# EAGLE library part TLV9061SQDBVRQ1 (library ruark2)
CMOS Amplifier 1 Circuit Rail-to-Rail SOT-23-6 10 MHz
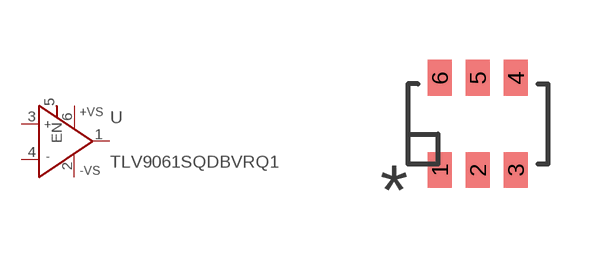
[diagram p169: symbol with the pads of SOT23-6; footprint SOT23-6]

Designator prefix U

## TLV9061SQDBVRQ1 (PARTNO: 296-TLV9061SQDBVRQ1CT-ND)  [SOT23-6]
1  OUT  out
2  -VS  in
3  IN+  in
4  IN-  in
5  EN
6  +VS  in

## Footprint SOT23-6 (pad centres in mm)
smd 0.6 x 0.9: 1 -0.95,-1.15; 2 0,-1.15; 3 0.95,-1.15; 4 0.95,1.15; 5 0,1.15; 6 -0.95,1.15